# Altium footprint library DE-130418.PcbLib: 111 footprints (part 5 of 7)
Each footprint in its own frame and in the unit in brackets; x right, y up, seen from the top. Pads: shape width x height; smd on the part's side, far side on the other; paste and mask are expansions set on the pad; w line width, h text height; cw(c..) or ccw(c..) is an arc to the next point about the centre after c.
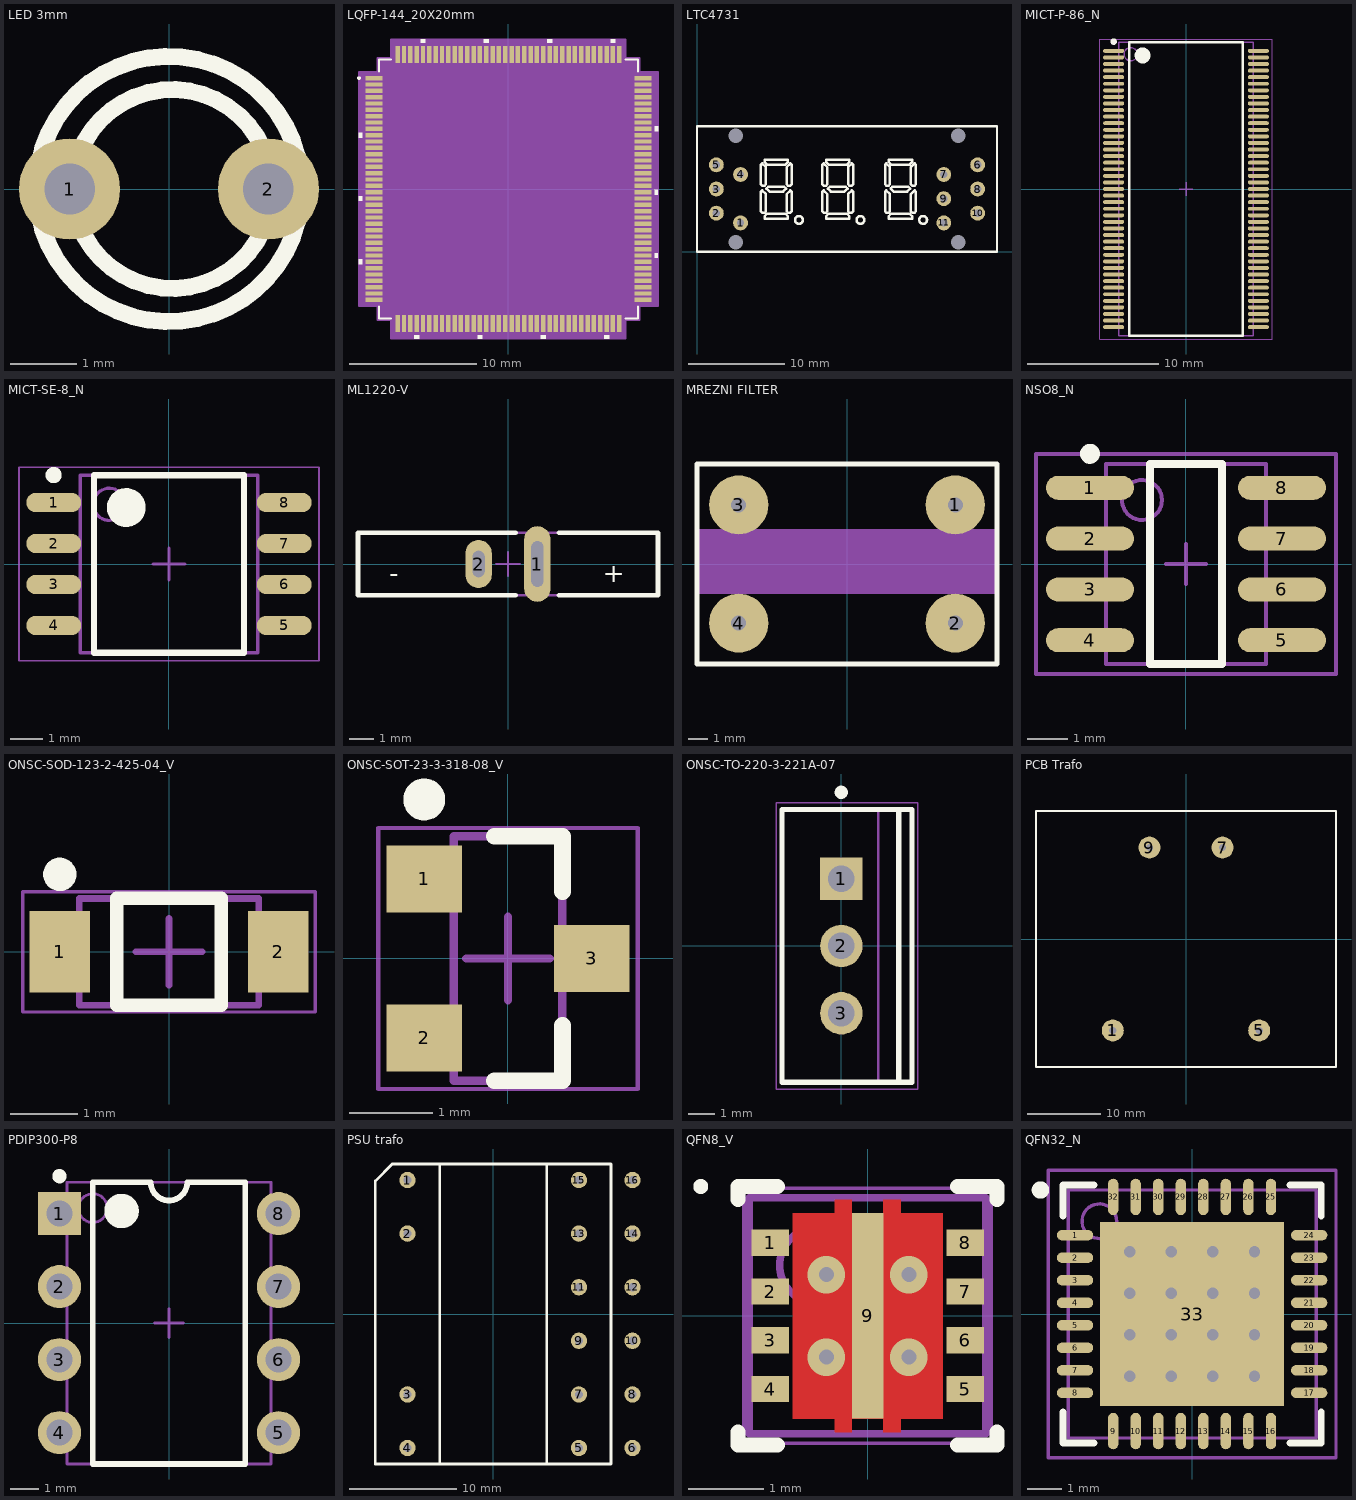
[diagram p4: the footprints below, top view; thin cyan lines are the x and y axes]

## LED 3mm [mil] "LED 3mm"
height 15
pads (2):
  round 60 hole 30: 1(-59.06,0) 2(59.06,0)
Top Overlay:
  circle w10: c0,0 r78.74
  circle w10: c1.89,0 r59.06

## LQFP-144_20X20mm [mm] "STM32F746ZET ARM Cortex M7 microcontroller"
height 0.002
pads (144):
  rect 1.35x0.35 smd: 1(-10.625,8.75) 2(-10.625,8.25) 3(-10.625,7.75) 4(-10.625,7.25) 5(-10.625,6.75) 6(-10.625,6.25) 7(-10.625,5.75) 8(-10.625,5.25) 9(-10.625,4.75) 10(-10.625,4.25) 11(-10.625,3.75) 12(-10.625,3.25) 13(-10.625,2.75) 14(-10.625,2.25) 15(-10.625,1.75) 16(-10.625,1.25) 17(-10.625,0.75) 18(-10.625,0.25) 19(-10.625,-0.25) 20(-10.625,-0.75) 21(-10.625,-1.25) 22(-10.625,-1.75) 23(-10.625,-2.25) 24(-10.625,-2.75) 25(-10.625,-3.25) 26(-10.625,-3.75) 27(-10.625,-4.25) 28(-10.625,-4.75) 29(-10.625,-5.25) 30(-10.625,-5.75) 31(-10.625,-6.25) 32(-10.625,-6.75) 33(-10.625,-7.25) 34(-10.625,-7.75) 35(-10.625,-8.25) 36(-10.625,-8.75) 73(10.625,-8.75) 74(10.625,-8.25) 75(10.625,-7.75) 76(10.625,-7.25) 77(10.625,-6.75) 78(10.625,-6.25) 79(10.625,-5.75) 80(10.625,-5.25) 81(10.625,-4.75) 82(10.625,-4.25) 83(10.625,-3.75) 84(10.625,-3.25) 85(10.625,-2.75) 86(10.625,-2.25) 87(10.625,-1.75) 88(10.625,-1.25) 89(10.625,-0.75) 90(10.625,-0.25) 91(10.625,0.25) 92(10.625,0.75) 93(10.625,1.25) 94(10.625,1.75) 95(10.625,2.25) 96(10.625,2.75) 97(10.625,3.25) 98(10.625,3.75) 99(10.625,4.25) 100(10.625,4.75) 101(10.625,5.25) 102(10.625,5.75) 103(10.625,6.25) 104(10.625,6.75) 105(10.625,7.25) 106(10.625,7.75) 107(10.625,8.25) 108(10.625,8.75)
  rect 0.35x1.35 smd: 37(-8.75,-10.625) 38(-8.25,-10.625) 39(-7.75,-10.625) 40(-7.25,-10.625) 41(-6.75,-10.625) 42(-6.25,-10.625) 43(-5.75,-10.625) 44(-5.25,-10.625) 45(-4.75,-10.625) 46(-4.25,-10.625) 47(-3.75,-10.625) 48(-3.25,-10.625) 49(-2.75,-10.625) 50(-2.25,-10.625) 51(-1.75,-10.625) 52(-1.25,-10.625) 53(-0.75,-10.625) 54(-0.25,-10.625) 55(0.25,-10.625) 56(0.75,-10.625) 57(1.25,-10.625) 58(1.75,-10.625) 59(2.25,-10.625) 60(2.75,-10.625) 61(3.25,-10.625) 62(3.75,-10.625) 63(4.25,-10.625) 64(4.75,-10.625) 65(5.25,-10.625) 66(5.75,-10.625) 67(6.25,-10.625) 68(6.75,-10.625) 69(7.25,-10.625) 70(7.75,-10.625) 71(8.25,-10.625) 72(8.75,-10.625) 109(8.75,10.625) 110(8.25,10.625) 111(7.75,10.625) 112(7.25,10.625) 113(6.75,10.625) 114(6.25,10.625) 115(5.75,10.625) 116(5.25,10.625) 117(4.75,10.625) 118(4.25,10.625) 119(3.75,10.625) 120(3.25,10.625) 121(2.75,10.625) 122(2.25,10.625) 123(1.75,10.625) 124(1.25,10.625) 125(0.75,10.625) 126(0.25,10.625) 127(-0.25,10.625) 128(-0.75,10.625) 129(-1.25,10.625) 130(-1.75,10.625) 131(-2.25,10.625) 132(-2.75,10.625) 133(-3.25,10.625) 134(-3.75,10.625) 135(-4.25,10.625) 136(-4.75,10.625) 137(-5.25,10.625) 138(-5.75,10.625) 139(-6.25,10.625) 140(-6.75,10.625) 141(-7.25,10.625) 142(-7.75,10.625) 143(-8.25,10.625) 144(-8.75,10.625)
Top Overlay:
  circle w0.152: c-11.804,8.75 r0.076
  region: -11.554,4.44 -11.808,4.44 -11.808,4.059 -11.554,4.059
  region: -11.554,-0.56 -11.808,-0.56 -11.808,-0.941 -11.554,-0.941
  region: -11.554,-5.56 -11.808,-5.56 -11.808,-5.941 -11.554,-5.941
  region: -7.06,-11.554 -7.441,-11.554 -7.441,-11.808 -7.06,-11.808
  region: -2.06,-11.554 -2.441,-11.554 -2.441,-11.808 -2.06,-11.808
  region: 2.94,-11.554 2.559,-11.554 2.559,-11.808 2.94,-11.808
  region: 7.94,-11.554 7.559,-11.554 7.559,-11.808 7.94,-11.808
  region: 11.554,-5.059 11.808,-5.059 11.808,-5.44 11.554,-5.44
  region: 11.554,-0.059 11.808,-0.059 11.808,-0.44 11.554,-0.44
  region: 11.554,4.941 11.808,4.941 11.808,4.56 11.554,4.56
  region: 8.441,11.554 8.06,11.554 8.06,11.808 8.441,11.808
  region: 3.441,11.554 3.06,11.554 3.059,11.808 3.44,11.808
  region: -1.559,11.554 -1.94,11.554 -1.94,11.808 -1.559,11.808
  region: -6.559,11.554 -6.94,11.554 -6.941,11.808 -6.56,11.808
  lines w0.152: -10.227,-9.258 -10.227,-10.227 -9.258,-10.227 ; -10.227,9.258 -10.227,10.227 -9.258,10.227 ; 9.258,-10.227 10.227,-10.227 10.227,-9.258 ; 9.258,10.227 10.227,10.227 10.227,9.258
Mechanical 13:
  circle w0: c-9.315,8.75 r0.076
Mechanical 15:
  region: -9.258,-10.354 -10.354,-10.354 -10.354,-9.258 -11.808,-9.258 -11.808,9.258 -10.354,9.258 -10.354,10.354 -9.258,10.354 -9.258,11.808 9.258,11.808 9.258,10.354 10.354,10.354 10.354,9.258 11.808,9.258 11.808,-9.258 10.354,-9.258 10.354,-10.354 9.258,-10.354 9.258,-11.808 -9.258,-11.808
  lines w0.152: -11.808,-9.258 -10.354,-9.258 -10.354,-10.354 -9.258,-10.354 -9.258,-11.808 9.258,-11.808 9.258,-10.354 10.354,-10.354 10.354,-9.258 11.808,-9.258 11.808,9.258 10.354,9.258 10.354,10.354 9.258,10.354 9.258,11.808 -9.258,11.808 -9.258,10.354 -10.354,10.354 -10.354,9.258 -11.808,9.258 -11.808,-9.258
3D body: height 0, standoff 0, extent -11.956,-11.884 11.884,11.884

## LTC4731 [mm] "Common Cathode 3 digits 7 segment LED display"
height 0.178
pads (15):
  round 1.54 hole 0.762: 1(4.5,3) 2(2,4) 3(2,6.5) 4(4.5,8) 5(2,9) 6(29,9) 7(25.5,8) 8(29,6.5) 9(25.5,5.5) 10(29,4) 11(25.5,3)
  round 1 hole 1.5: HOLE(4,1) HOLE(4,12) HOLE(27,1) HOLE(27,12)
Top Overlay:
  drawing of 154 lines, arcs and shapes, not listed

## MICT-P-86_N [mm] "SOP, 86-Leads, Body 22.22x10.6mm, Pitch 0.5mm, , IPC Medium Density"
height 1.2
pads (86):
  oval 1.6x0.3 smd: 1(-5.5,10.5) 2(-5.5,10) 3(-5.5,9.5) 4(-5.5,9) 5(-5.5,8.5) 6(-5.5,8) 7(-5.5,7.5) 8(-5.5,7) 9(-5.5,6.5) 10(-5.5,6) 11(-5.5,5.5) 12(-5.5,5) 13(-5.5,4.5) 14(-5.5,4) 15(-5.5,3.5) 16(-5.5,3) 17(-5.5,2.5) 18(-5.5,2) 19(-5.5,1.5) 20(-5.5,1) 21(-5.5,0.5) 22(-5.5,0) 23(-5.5,-0.5) 24(-5.5,-1) 25(-5.5,-1.5) 26(-5.5,-2) 27(-5.5,-2.5) 28(-5.5,-3) 29(-5.5,-3.5) 30(-5.5,-4) 31(-5.5,-4.5) 32(-5.5,-5) 33(-5.5,-5.5) 34(-5.5,-6) 35(-5.5,-6.5) 36(-5.5,-7) 37(-5.5,-7.5) 38(-5.5,-8) 39(-5.5,-8.5) 40(-5.5,-9) 41(-5.5,-9.5) 42(-5.5,-10) 43(-5.5,-10.5) 44(5.5,-10.5) 45(5.5,-10) 46(5.5,-9.5) 47(5.5,-9) 48(5.5,-8.5) 49(5.5,-8) 50(5.5,-7.5) 51(5.5,-7) 52(5.5,-6.5) 53(5.5,-6) 54(5.5,-5.5) 55(5.5,-5) 56(5.5,-4.5) 57(5.5,-4) 58(5.5,-3.5) 59(5.5,-3) 60(5.5,-2.5) 61(5.5,-2) 62(5.5,-1.5) 63(5.5,-1) 64(5.5,-0.5) 65(5.5,0) 66(5.5,0.5) 67(5.5,1) 68(5.5,1.5) 69(5.5,2) 70(5.5,2.5) 71(5.5,3) 72(5.5,3.5) 73(5.5,4) 74(5.5,4.5) 75(5.5,5) 76(5.5,5.5) 77(5.5,6) 78(5.5,6.5) 79(5.5,7) 80(5.5,7.5) 81(5.5,8) 82(5.5,8.5) 83(5.5,9) 84(5.5,9.5) 85(5.5,10) 86(5.5,10.5)
Top Overlay:
  circle w0.25: c-5.5,11.2 r0.125
  circle w0.6: c-3.3,10.15 r0.3
  lines w0.2: -4.3,-11.15 -4.3,11.15 4.3,11.15 4.3,-11.15 -4.3,-11.15
Mechanical 13:
  circle w0.1: c-4.2,10.25 r0.5
  lines w0.1: -5.1,-11.15 -5.1,11.15 5.1,11.15 5.1,-11.15 -5.1,-11.15
Mechanical 15:
  lines w0.05: -6.55,-11.4 -6.55,11.4 6.55,11.4 6.55,-11.4 -6.55,-11.4
  lines w0.1: -0.5,0 0.5,0 ; 0,-0.5 0,0.5
3D body: height 1.2, standoff 0, extent -6.575,-11.425 6.575,11.45

## MICT-SE-8_N [mm] "SOIC, 8-Leads, Body 5.5x5.5mm, Pitch 1.27mm, IPC Medium Density"
height 6
pads (8):
  oval 1.7x0.6 smd: 1(-3.575,1.905) 2(-3.575,0.635) 3(-3.575,-0.635) 4(-3.575,-1.905) 5(3.575,-1.905) 6(3.575,-0.635) 7(3.575,0.635) 8(3.575,1.905)
Top Overlay:
  circle w0.6: c-1.325,1.75 r0.3
  circle w0.25: c-3.575,2.755 r0.125
  lines w0.2: -2.325,-2.75 2.325,-2.75 2.325,2.75 -2.325,2.75 -2.325,-2.75
Mechanical 13:
  circle w0.1: c-1.85,1.85 r0.5
  lines w0.1: -2.75,-2.75 2.75,-2.75 2.75,2.75 -2.75,2.75 -2.75,-2.75
Mechanical 15:
  lines w0.05: -4.65,-3 4.65,-3 4.65,3 -4.65,3 -4.65,-3
  lines w0.1: -0.5,0 0.5,0 ; 0,-0.5 0,0.5
3D body: height 6, standoff 0, extent -4.675,-3.025 4.675,3.025

## ML1220-V [mm] "Battery, Thru-Hole, Vertical Disk; 2 Leads, Body 12.5 x 2.6 mm (Dia.xW typ)"
height 14.8
pads (2):
  oval 1.1x3.15 hole 0.5 slot 1.9 at 90 deg: 1(1.225,0)
  oval 1.1x2 hole 0.5 slot 1.1 at 90 deg: 2(-1.225,0)
Top Overlay:
  lines w0.2: 0.32,-1.3 -6.25,-1.3 -6.25,1.3 0.32,1.3 ; 2.13,-1.3 6.25,-1.3 6.25,1.3 2.13,1.3
  text "-" at -4.955,-0.76 h0.8
  text "+" at 3.94,-0.76 h0.8
Mechanical 13:
  lines w0.1: -6.25,-1.3 -6.25,1.3 6.25,1.3 6.25,-1.3 -6.25,-1.3
Mechanical 15:
  lines w0.1: -0.5,0 0.5,0 ; 0,-0.5 0,0.5
3D body: height 14.8, standoff 1, extent -6.249,-1.299 6.249,1.299

## MREZNI FILTER [mm] "Filter mrežnih smetnji"
height 0.381
pads (4):
  round 3 hole 0.762: 1(5.5,3) 2(5.5,-3) 3(-5.5,3) 4(-5.5,-3)
Top Overlay:
  lines w0.254: -7.62,-5.08 7.62,-5.08 7.62,5.08 -7.62,5.08 -7.62,-5.08
Mechanical 1:
  rectangle: -7.62,-1.524 7.62,1.778

## NSO8_N [mm] "SOIC, 8-Leads, Body 4.9x3.9mm, Pitch 1.27mm, IPC Medium Density"
height 1.75
pads (8):
  oval 2.2x0.6 smd: 1(-2.4,1.905) 2(-2.4,0.635) 3(-2.4,-0.635) 4(-2.4,-1.905) 5(2.4,-1.905) 6(2.4,-0.635) 7(2.4,0.635) 8(2.4,1.905)
Top Overlay:
  circle w0.25: c-2.4,2.755 r0.125
  lines w0.2: -0.9,-2.5 0.9,-2.5 0.9,2.5 -0.9,2.5 -0.9,-2.5
Mechanical 13:
  circle w0.1: c-1.1,1.6 r0.5
  lines w0.1: -2,-2.5 2,-2.5 2,2.5 -2,2.5 -2,-2.5
Mechanical 15:
  lines w0.1: -0.5,0 0.5,0 ; 0,-0.5 0,0.5 ; -3.75,-2.75 3.75,-2.75 3.75,2.75 -3.75,2.75 -3.75,-2.75
3D body: height 1.75, standoff 0, extent -2,-2.5 2,2.5

## ONSC-SOD-123-2-425-04_V [mm] "SOD, 2-Leads, Body 2.69x1.6mm"
height 1.35
pads (2):
  rect 0.91x1.22 smd: 1(-1.635,0) 2(1.635,0)
Top Overlay:
  circle w0.25: c-1.635,1.16 r0.125
  lines w0.2: -0.78,-0.8 0.78,-0.8 0.78,0.8 -0.78,0.8 -0.78,-0.8
Mechanical 13:
  lines w0.1: -1.345,-0.8 1.345,-0.8 1.345,0.8 -1.345,0.8 -1.345,-0.8
Mechanical 15:
  lines w0.05: -2.19,-0.9 2.19,-0.9 2.19,0.9 -2.19,0.9 -2.19,-0.9
  lines w0.1: -0.5,0 0.5,0 ; 0,-0.5 0,0.5
3D body: height 1.35, standoff 0, extent -1.345,-0.8 1.345,0.8

## ONSC-SOT-23-3-318-08_V [mm] "SOT23, 3-Leads, Body 2.92x1.3mm, Pitch 0.95mm"
height 1.11
pads (3):
  rect 0.9x0.8 smd: 1(-1,0.95) 2(-1,-0.95) 3(1,0)
Top Overlay:
  circle w0.25: c-1,1.9 r0.125
  lines w0.2: -0.165,-1.46 0.65,-1.46 0.65,-0.8 ; -0.165,1.46 0.65,1.46 0.65,0.8
Mechanical 13:
  lines w0.1: -0.65,-1.46 0.65,-1.46 0.65,1.46 -0.65,1.46 -0.65,-1.46
Mechanical 15:
  lines w0.05: -1.55,-1.56 1.55,-1.56 1.55,1.56 -1.55,1.56 -1.55,-1.56
  lines w0.1: -0.5,0 0.5,0 ; 0,-0.5 0,0.5
3D body: height 1.11, standoff 0.01, extent -0.65,-1.46 0.65,1.46

## ONSC-TO-220-3-221A-07 [mm] "FM, 3-Leads, Body 10.3x4.85mm, Pitch 2.54mm"
height 19.68
pads (3):
  rect 1.6x1.6 hole 1: 1(0,2.54)
  round 1.6 hole 1: 2(0,0) 3(0,-2.54)
Top Overlay:
  circle w0.25: c0,5.8 r0.125
  lines w0.2: 2.165,-5.15 2.165,5.15 ; -2.235,-5.15 2.665,-5.15 2.665,5.15 -2.235,5.15 -2.235,-5.15
Mechanical 13:
  lines w0.1: 1.39,-5.15 1.39,5.15 ; -2.21,-5.15 -2.21,5.15 2.64,5.15 2.64,-5.15 -2.21,-5.15
Mechanical 15:
  lines w0.05: -2.46,-5.4 -2.46,5.4 2.89,5.4 2.89,-5.4 -2.46,-5.4
  lines w0.1: -0.5,0 0.5,0 ; 0,-0.5 0,0.5
3D body: height 2.8, standoff 0, extent -0.23,1.87 0.23,3.21
3D body: height 0, standoff -1.6, extent -0.23,2.16 0.23,2.92
3D body: height 2.8, standoff 0, extent -0.23,-0.67 0.23,0.67
3D body: height 0, standoff -1.6, extent -0.23,-0.38 0.23,0.38
3D body: height 2.8, standoff 0, extent -0.23,-3.21 0.23,-1.87
3D body: height 0, standoff -1.6, extent -0.23,-2.92 0.23,-2.16
3D body: height 13.48, standoff 2.8, extent -2.21,-5.15 2.64,5.15
3D body: height 15.06, standoff 13.48, extent 1.39,-4.975 2.64,4.975
3D body: height 15.1, standoff 15.06, extent 1.39,0.356 2.64,4.975
3D body: height 15.1, standoff 15.06, extent 1.39,-4.975 2.64,-0.356
3D body: height 18.71, standoff 18.67, extent 1.39,0.356 2.64,4.975
3D body: height 18.71, standoff 18.67, extent 1.39,-4.975 2.64,-0.356
3D body: height 15.2, standoff 15.09, extent 1.39,0.698 2.64,4.975
3D body: height 15.2, standoff 15.09, extent 1.39,-4.975 2.64,-0.698
3D body: height 18.67, standoff 18.57, extent 1.39,0.698 2.64,4.975
3D body: height 18.67, standoff 18.57, extent 1.39,-4.975 2.64,-0.698
3D body: height 15.37, standoff 15.19, extent 1.39,1.014 2.64,4.975
3D body: height 15.37, standoff 15.19, extent 1.39,-4.975 2.64,-1.014
3D body: height 18.57, standoff 18.4, extent 1.39,1.014 2.64,4.975
3D body: height 18.57, standoff 18.4, extent 1.39,-4.975 2.64,-1.014
3D body: height 15.59, standoff 15.36, extent 1.39,1.29 2.64,4.975
3D body: height 15.59, standoff 15.36, extent 1.39,-4.975 2.64,-1.29
3D body: height 18.4, standoff 18.17, extent 1.39,1.29 2.64,4.975
3D body: height 18.4, standoff 18.17, extent 1.39,-4.975 2.64,-1.29
3D body: height 15.87, standoff 15.59, extent 1.39,1.517 2.64,4.975
3D body: height 15.87, standoff 15.59, extent 1.39,-4.975 2.64,-1.517
3D body: height 18.18, standoff 17.89, extent 1.39,1.517 2.64,4.975
3D body: height 18.18, standoff 17.89, extent 1.39,-4.975 2.64,-1.517
3D body: height 16.19, standoff 15.87, extent 1.39,1.686 2.64,4.975
3D body: height 16.19, standoff 15.87, extent 1.39,-4.975 2.64,-1.686
3D body: height 17.9, standoff 17.58, extent 1.39,1.686 2.64,4.975
3D body: height 17.9, standoff 17.58, extent 1.39,-4.975 2.64,-1.686
3D body: height 16.53, standoff 16.18, extent 1.39,1.79 2.64,4.975
3D body: height 16.53, standoff 16.18, extent 1.39,-4.975 2.64,-1.79
3D body: height 17.58, standoff 17.24, extent 1.39,1.79 2.64,4.975
3D body: height 17.58, standoff 17.24, extent 1.39,-4.975 2.64,-1.79
3D body: height 16.88, standoff 16.52, extent 1.39,1.825 2.64,4.975
3D body: height 16.88, standoff 16.52, extent 1.39,-4.975 2.64,-1.825
3D body: height 17.24, standoff 16.88, extent 1.39,1.825 2.64,4.975
3D body: height 17.24, standoff 16.88, extent 1.39,-4.975 2.64,-1.825
3D body: height 19.68, standoff 18.71, extent 1.39,-4.975 2.64,4.975

## PCB Trafo [mm] "PCB Trafo 220Vac / 15Vac , 4,5VA"
height 28
pads (4):
  round 3 hole 1: 1(-10,-12.5) 5(10,-12.5) 7(5,12.5) 9(-5,12.5)
Top Overlay:
  lines w0.254: -20.5,-17.5 20.5,-17.5 20.5,17.5 -20.5,17.5 -20.5,-17.5
3D body: height 37.6, standoff 0.06, extent -20.574,-17.526 20.447,17.526
3D body: height 42.8, standoff 0, extent -14.605,-11.684 14.859,11.557

## PDIP300-P8 [mm] "DIP, 8-Leads, Row Spacing 7.62mm, Pitch 2.54mm, Body 9.5x6.6mm"
height 5.34
pads (8):
  rect 1.5x1.5 hole 0.9: 1(-3.81,3.81)
  round 1.5 hole 0.9: 2(-3.81,1.27) 3(-3.81,-1.27) 4(-3.81,-3.81) 5(3.81,-3.81) 6(3.81,-1.27) 7(3.81,1.27) 8(3.81,3.81)
Top Overlay:
  circle w0.25: c-3.81,5.11 r0.125
  circle w0.6: c-1.65,3.9 r0.3
  lines w0.2: -2.65,-4.9 -2.65,4.9 -0.635,4.9 ccw(c0,4.9) 0.635,4.9 2.65,4.9 2.65,-4.9 -2.65,-4.9
Mechanical 13:
  circle w0.1: c-2.65,4 r0.5
  lines w0.1: -3.55,-4.9 -3.55,4.9 3.55,4.9 3.55,-4.9 -3.55,-4.9
Mechanical 15:
  lines w0.1: -0.5,0 0.5,0 ; 0,-0.5 0,0.5
3D body: height 5.34, standoff 0, extent -3.55,-4.9 3.55,4.9

## PSU trafo [mil] "SMPSU feritni trafo"
height 984.25
pads (16):
  round 60 hole 30: 1(-314.96,492.13) 2(-314.96,295.28) 3(-314.96,-295.28) 4(-314.96,-492.13) 5(314.96,-492.13) 6(511.81,-492.13) 7(314.96,-295.28) 8(511.81,-295.28) 9(314.96,-98.43) 10(511.81,-98.43) 11(314.96,98.43) 12(511.81,98.43) 13(314.96,295.28) 14(511.81,295.28) 15(314.96,492.13) 16(511.81,492.13)
Top Overlay:
  lines w10: -371,551 -433.07,488.93 -433.07,-551.18 433.07,-551.18 433.07,551 ; -371,551.18 433.07,551.18 ; -196.85,-551.18 -196.85,551.18 196.85,551.18 196.85,-551.18 -196.85,-551.18
3D body: height 944.88, standoff 196.85, extent -250,-550 250,550
3D body: height 787.4, standoff 196.85, extent -430,-400 -250,400
3D body: height 787.4, standoff 196.85, extent 250,-400 430,400

## QFN8_V [mm] "SON, 8-Leads, Body 3x3mm, Pitch 0.65mm, Thermal Pad 2.74x2mm, ST Recommended"
height 1
pads (9):
  rect 0.5x0.35 smd: 1(-1.3,0.975) 2(-1.3,0.325) 3(-1.3,-0.325) 4(-1.3,-0.975) 5(1.3,-0.975) 6(1.3,-0.325) 7(1.3,0.325) 8(1.3,0.975)
  rect 0.42x2.74 smd paste+0 mask+0: 9(0,0)
via -0.55,0.55 diameter 0.5 hole 0.2
via 0.55,0.55 diameter 0.5 hole 0.2
via -0.55,-0.55 diameter 0.5 hole 0.2
via 0.55,-0.55 diameter 0.5 hole 0.2
Top Layer:
  region: -0.44,-1.55 -0.44,-1.37 -1,-1.37 -1,1.37 -0.44,1.37 -0.44,1.55 -0.21,1.55 -0.21,1.37 0.21,1.37 0.21,1.55 0.44,1.55 0.44,1.37 1,1.37 1,-1.37 0.44,-1.37 0.44,-1.55 0.21,-1.55 0.21,-1.37 -0.21,-1.37 -0.21,-1.55
Top Overlay:
  circle w0.1: c-2.225,1.725 r0.05
  lines w0.2: -1.725,-1.55 -1.725,-1.725 -1.2,-1.725 ; -1.725,1.55 -1.725,1.725 -1.2,1.725 ; 1.2,-1.725 1.725,-1.725 1.725,-1.55 ; 1.2,1.725 1.725,1.725 1.725,1.55
Mechanical 13:
  circle w0.1: c-0.675,0.675 r0.5
  lines w0.1: -1.575,-1.575 -1.575,1.575 1.575,1.575 1.575,-1.575 -1.575,-1.575
Mechanical 15:
  lines w0.05: -1.65,-1.7 -1.65,1.7 1.65,1.7 1.65,-1.7 -1.65,-1.7
  lines w0.1: -0.5,0 0.5,0 ; 0,-0.5 0,0.5
3D body: height 1, standoff 0, extent -1.575,-1.575 1.575,1.575

## QFN32_N [mm] "QFN, 32-Leads, Body 7x7 mm, Pitch 0.65mm, IPC Medium Density"
height 1
pads (33):
  oval 1.05x0.3 smd: 1(-3.375,2.275) 2(-3.375,1.625) 3(-3.375,0.975) 4(-3.375,0.325) 5(-3.375,-0.325) 6(-3.375,-0.975) 7(-3.375,-1.625) 8(-3.375,-2.275) 17(3.375,-2.275) 18(3.375,-1.625) 19(3.375,-0.975) 20(3.375,-0.325) 21(3.375,0.325) 22(3.375,0.975) 23(3.375,1.625) 24(3.375,2.275)
  oval 0.3x1.05 smd: 9(-2.275,-3.375) 10(-1.625,-3.375) 11(-0.975,-3.375) 12(-0.325,-3.375) 13(0.325,-3.375) 14(0.975,-3.375) 15(1.625,-3.375) 16(2.275,-3.375) 25(2.275,3.375) 26(1.625,3.375) 27(0.975,3.375) 28(0.325,3.375) 29(-0.325,3.375) 30(-0.975,3.375) 31(-1.625,3.375) 32(-2.275,3.375)
  rect 5.3x5.3 smd: 33(0,0)
via -1.8,1.8 diameter 0.66 hole 0.33
via -0.6,1.8 diameter 0.66 hole 0.33
via 0.6,1.8 diameter 0.66 hole 0.33
via 1.8,1.8 diameter 0.66 hole 0.33
via -1.8,0.6 diameter 0.66 hole 0.33
via -0.6,0.6 diameter 0.66 hole 0.33
via 0.6,0.6 diameter 0.66 hole 0.33
via 1.8,0.6 diameter 0.66 hole 0.33
via -1.8,-0.6 diameter 0.66 hole 0.33
via -0.6,-0.6 diameter 0.66 hole 0.33
via 0.6,-0.6 diameter 0.66 hole 0.33
via 1.8,-0.6 diameter 0.66 hole 0.33
via -1.8,-1.8 diameter 0.66 hole 0.33
via -0.6,-1.8 diameter 0.66 hole 0.33
via 0.6,-1.8 diameter 0.66 hole 0.33
via 1.8,-1.8 diameter 0.66 hole 0.33
Top Overlay:
  circle w0.25: c-4.375,3.575 r0.125
  lines w0.2: -3.725,-2.825 -3.725,-3.725 -2.825,-3.725 ; -3.725,2.825 -3.725,3.725 -2.825,3.725 ; 2.825,-3.725 3.725,-3.725 3.725,-2.825 ; 2.825,3.725 3.725,3.725 3.725,2.825
Mechanical 13:
  circle w0.1: c-2.675,2.675 r0.5
  lines w0.1: -3.575,-3.575 -3.575,3.575 3.575,3.575 3.575,-3.575 -3.575,-3.575
Mechanical 15:
  lines w0.1: -0.5,0 0.5,0 ; 0,-0.5 0,0.5 ; -4.15,-4.15 -4.15,4.15 4.15,4.15 4.15,-4.15 -4.15,-4.15
3D body: height 1, standoff 0, extent -3.575,-3.575 3.575,3.575